# Altium schematic symbol library conn_power.SchLib: 29 symbols
Pins are listed as number, name and electrical type; pins without a type are passive.

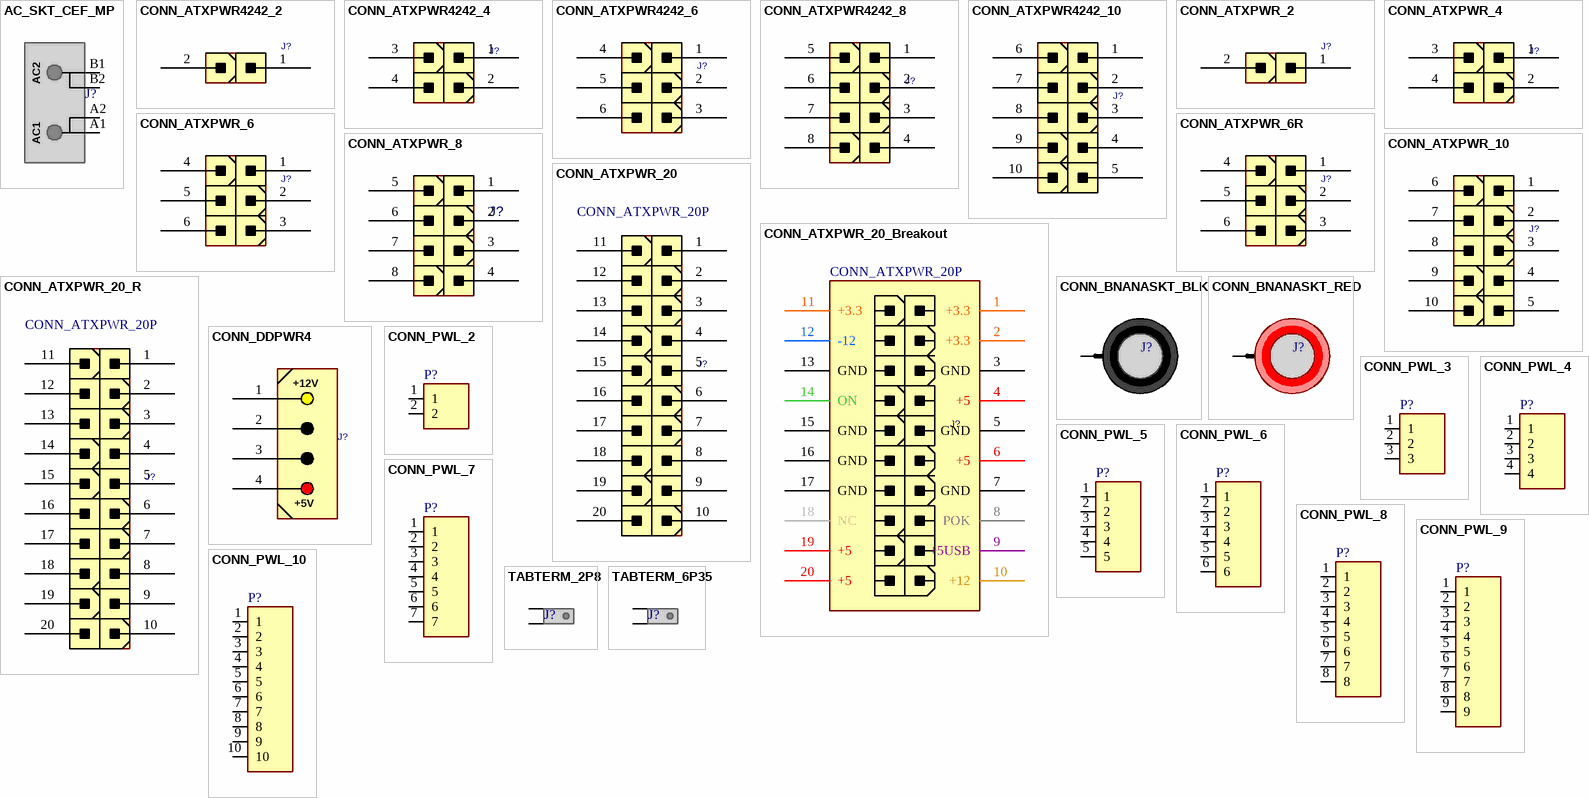
[diagram p0: symbols AC_SKT_CEF_MP to TABTERM_6P35]

## AC_SKT_CEF_MP
designator J?  (value not drawn)
AC power Brass socket METAL PART of Type C, E, F; MANF: -; MANF_P#: AC_SKT_CEF_MP; VALUE: AC_SKT_CEF_MP; MountType: THD; Part Type: Conn.
footprint AC_SKT_CEF_MP (AC power Brass socket METAL PART of Type C, E, F)
pins: A1, A2, B1, B2
text: AC2; AC1

## CONN_ATXPWR4242_2
designator J?, comment CONN_ATXPWR_2  (value not drawn)
CONN, ATX POWER, 2 P; VALUE: CONN_ATXPWR_2; MountType: THD; PACKAGE: ATXPWR-2pin; Part Type: Conn.
footprint ATXPWR4242_2 (Connector; ATX Power; pitch: 4.2mm-Row4.2mm)
pins: 1, 2

## CONN_ATXPWR4242_4
designator J?, comment CONN_ATXPWR_4  (value not drawn)
CONN, ATX POWER, 4 P; VALUE: CONN_ATXPWR_4; MountType: THD; PACKAGE: ATXPWR-4pin; Part Type: Conn.
footprint ATXPWR4242_4 (Connector; ATX Power; pitch: 4.2mm-Row4.2mm)
pins: 1, 2, 3, 4

## CONN_ATXPWR4242_6
designator J?, comment CONN_ATXPWR_6  (value not drawn)
CONN, ATX POWER, 6 P; VALUE: CONN_ATXPWR_6; MountType: THD; PACKAGE: ATXPWR-6pin; Part Type: Conn.
footprint ATXPWR4242_6 (Connector; ATX Power; pitch: 4.2mm-Row4.2mm)
pins: 1, 2, 3, 4, 5, 6

## CONN_ATXPWR4242_8
designator J?, comment CONN_ATXPWR_8  (value not drawn)
CONN, ATX POWER, 8 P; VALUE: CONN_ATXPWR_8; MountType: THD; PACKAGE: ATXPWR-8pin; Part Type: Conn.
footprint ATXPWR4242_8 (Connector; ATX Power; pitch: 4.2mm-Row4.2mm)
pins: 1, 2, 3, 4, 5, 6, 7, 8

## CONN_ATXPWR4242_10
designator J?, comment CONN_ATXPWR_10  (value not drawn)
CONN, ATX POWER, 10 P; VALUE: CONN_ATXPWR_10; MountType: THD; PACKAGE: ATXPWR-10pin; Part Type: Conn.
footprint ATXPWR4242_10 (Connector; ATX Power; pitch: 4.2mm-Row4.2mm)
pins: 1, 2, 3, 4, 5, 6, 7, 8, 9, 10

## CONN_ATXPWR_2
designator J?  (value not drawn)
CONN, ATX POWER, 2 P; MANF: Molex; MANF_P#: 39281023; VALUE: CONN_ATXPWR_2; MountType: THD; PACKAGE: ATXPWR-2pin; Part Type: Conn.
footprint ATXPWR_2 (Connector; ATX Power; 2 Position, Molex 39281023)
pins: 1, 2

## CONN_ATXPWR_4
designator J?  (value not drawn)
CONN, ATX POWER, 4 P; MANF: TE, Molex; MANF_P#: 4-1775099-0, 39281043; VALUE: CONN_ATXPWR_4; MountType: THD; PACKAGE: ATXPWR-4pin; Part Type: Conn.
footprint ATXPWR_4 (Connector; ATX Power; 6 Position, TE 4-1775099-0)
pins: 1, 2, 3, 4

## CONN_ATXPWR_6
designator J?  (value not drawn)
CONN, ATX POWER, 6 P; MANF: TE; MANF_P#: 4-1775099-1; VALUE: CONN_ATXPWR_6; MountType: THD; PACKAGE: ATXPWR-6pin; Part Type: Conn.
footprint ATXPWR_6 (Connector; ATX Power; 6 Position, TE 4-1775099-1)
pins: 1, 2, 3, 4, 5, 6

## CONN_ATXPWR_6R
designator J?, comment CONN_ATXPWR_6  (value not drawn)
CONN, ATX POWER, 6 P; MANF: TE; VALUE: CONN_ATXPWR_6; MountType: THD; PACKAGE: ATXPWR-6pin; Part Type: Conn.
footprint ATXPWR_6_R (PCI Express POWER CONNECTOR 6PIN 12V Right Angle)
pins: 1, 2, 3, 4, 5, 6

## CONN_ATXPWR_8
designator J?  (value not drawn)
CONN, ATX POWER, 8 P; MANF: TE; MANF_P#: 4-1775099-2; VALUE: CONN_ATXPWR_8; MountType: THD; PACKAGE: ATXPWR-8pin; Part Type: Conn.
footprint ATXPWR_8 (Connector; ATX Power; 10 Position, TE 4-1775099-4)
pins: 1, 2, 3, 4, 5, 6, 7, 8

## CONN_ATXPWR_10
designator J?  (value not drawn)
CONN, ATX POWER, 10 P; MANF: TE; MANF_P#: 4-1775099-3; VALUE: CONN_ATXPWR_10; MountType: THD; PACKAGE: ATXPWR-10pin; Part Type: Conn.
footprint ATXPWR_10 (Connector; ATX Power; 10 Position, TE 4-1775099-3)
pins: 1, 2, 3, 4, 5, 6, 7, 8, 9, 10

## CONN_ATXPWR_20
designator J?, comment CONN_ATXPWR_20P
CONN, ATX POWER, 20 P, Molex Mini-Fit 4.2mm pitch; MANF_P#: 39281203, 39288200; MANF: Molex; VALUE: CONN_ATXPWR_20P; MountType: THD; PACKAGE: ATXPWR-20pin; Part Type: Conn.
footprint ATXPWR_20 (ATX power 20pin ,pitch4.2mm)
pins: 1 +3.3, 2 +3.3, 3 GND, 4 +5, 5 GND, 6 +5, 7 GND, 8 POK, 9 +5USB, 10 +12, 11 +3.3, 12 -12, 13 GND, 14 ON, 15 GND, 16 GND, 17 GND, 18 NC, 19 +5, 20 +5

## CONN_ATXPWR_20_Breakout
designator J?, comment CONN_ATXPWR_20P
CONN, ATX POWER, 20 P, Molex Mini-Fit 4.2mm pitch; MANF_P#: 39291207, 39291208, 39295203; MANF: Molex; MountType: THD; PACKAGE: ATXPWR-20pin; Part Type: Conn.; VALUE: CONN_ATXPWR_20P
footprint ATXPWR_20_R (ATX power 20pin ,pitch4.2mm)
pins: 1 +3.3, 2 +3.3, 3 GND, 4 +5, 5 GND, 6 +5, 7 GND, 8 POK, 9 +5USB, 10 +12, 11 +3.3, 12 -12, 13 GND, 14 ON, 15 GND, 16 GND, 17 GND, 18 NC, 19 +5, 20 +5

## CONN_ATXPWR_20_R
designator J?, comment CONN_ATXPWR_20P
CONN, ATX POWER, 20 P, Molex Mini-Fit 4.2mm pitch; MANF_P#: 39291207, 39291208, 39295203; MANF: Molex; VALUE: CONN_ATXPWR_20P; MountType: THD; PACKAGE: ATXPWR-20pin; Part Type: Conn.
footprint ATXPWR_20_R (ATX power 20pin ,pitch4.2mm)
pins: 1 +3.3, 2 +3.3, 3 GND, 4 +5, 5 GND, 6 +5, 7 GND, 8 POK, 9 +5USB, 10 +12, 11 +3.3, 12 -12, 13 GND, 14 ON, 15 GND, 16 GND, 17 GND, 18 NC, 19 +5, 20 +5

## CONN_BNANASKT_BLK
designator J?, comment BNANASKT  (value not drawn)
Banana socket long black; VALUE: BNANASKT; MountType: THD; Part Type: Conn.
footprint BNANASKT_L_BLK (Banana socket long black)
pins: 1

## CONN_BNANASKT_RED
designator J?, comment BNANASKT  (value not drawn)
Banana socket long Red; VALUE: BNANASKT; MountType: THD; Part Type: Conn.
footprint BNANASKT_L_RED (Banana socket long Red)
pins: 1

## CONN_DDPWR4
designator J?  (value not drawn)
CONN, DP04PR IDE DISK DRIVE 4pin; MANF: MOLEX; MANF_P#: 15-24-4745, 15-24-4449; VALUE: CONN_DDPWR4; MountType: THD; Part Type: Conn.
footprint DDPWR4_S (DP04PR IDE DISK DRIVE 4pin power connector Straight Power Plug)
footprint DDPWR4_R (DP04PR IDE DISK DRIVE 4pin power connector Right Angle Power Plug)
pins: 1, 2, 3, 4
text: +12V; +5V

## CONN_PWL_2
designator P?  (value not drawn)
Power Terminal 2pin,Header, 2-Pin; VALUE: CONN_PWL_2; MountType: THD; Part Type: Conn.
footprint PWL_2 (Connector; Header; 2 Position)
pins: 1, 2

## CONN_PWL_3
designator P?  (value not drawn)
Power Terminal 3pin,Header, 3-Pin; VALUE: CONN_PWL_3; MountType: THD; Part Type: Conn.
footprint PWL_3 (Connector; Header; 3 Position)
pins: 1, 2, 3

## CONN_PWL_4
designator P?  (value not drawn)
Power Terminal 4pin,Header, 4-Pin; VALUE: CONN_PWL_4; MountType: THD; Part Type: Conn.
footprint PWL_4 (Connector; Header; 4 Position)
pins: 1, 2, 3, 4

## CONN_PWL_5
designator P?  (value not drawn)
Power Terminal 5pin,Header, 5-Pin; VALUE: CONN_PWL_5; MountType: THD; Part Type: Conn.
footprint PWL_5 (Connector; Header; 5 Position)
pins: 1, 2, 3, 4, 5

## CONN_PWL_6
designator P?  (value not drawn)
Power Terminal 6pin,Header, 6-Pin; VALUE: CONN_PWL_6; MountType: THD; Part Type: Conn.
footprint PWL_6 (Connector; Header; 6 Position)
pins: 1, 2, 3, 4, 5, 6

## CONN_PWL_7
designator P?  (value not drawn)
Power Terminal 7pin,Header, 7-Pin; VALUE: CONN_PWL_7; MountType: THD; Part Type: Conn.
footprint PWL_7 (Connector; Header; 7 Position)
pins: 1, 2, 3, 4, 5, 6, 7

## CONN_PWL_8
designator P?  (value not drawn)
Power Terminal 8pin,Header, 8-Pin; VALUE: CONN_PWL_8; MountType: THD; Part Type: Conn.
footprint PWL_8 (Connector; Header; 8 Position)
pins: 1, 2, 3, 4, 5, 6, 7, 8

## CONN_PWL_9
designator P?  (value not drawn)
Power Terminal 9pin,Header, 9-Pin; VALUE: CONN_PWL_9; MountType: THD; Part Type: Conn.
footprint PWL_9 (Connector; Header; 9 Position)
pins: 1, 2, 3, 4, 5, 6, 7, 8, 9

## CONN_PWL_10
designator P?  (value not drawn)
Power Terminal 10pin,Header, 10-Pin; VALUE: CONN_PWL_10; MountType: THD; Part Type: Conn.
footprint PWL_10 (Connector; Header; 10 Position)
pins: 1, 2, 3, 4, 5, 6, 7, 8, 9, 10

## TABTERM_2P8
designator J?  (value not drawn)
Tab terminal FASTON 110, 2.8 mm width, 0.8 mm thickness; MANF: MESA; MANF_P#: TE 2368; VALUE: TABTERM_2P8; MountType: THD; Part Type: Conn.
footprint TABTERM_2P8 (Tab terminal FASTON 110, 2.8 mm width, 0.8 mm thickness)
pins: 1, 2

## TABTERM_6P35
designator J?  (value not drawn)
Tab terminal FASTON 250, 6.35 mm width, 0.8 mm thickness; VALUE: TABTERM_6P35; MountType: THD; Part Type: Conn.
footprint TABTERM_6P35 (Tab terminal FASTON 250, 6.35 mm width, 0.8 mm thickness)
pins: 1, 2